# Altium schematic symbol library Capacitores.SchLib: 7 symbols
Pins are listed as number, name and electrical type; pins without a type are passive.

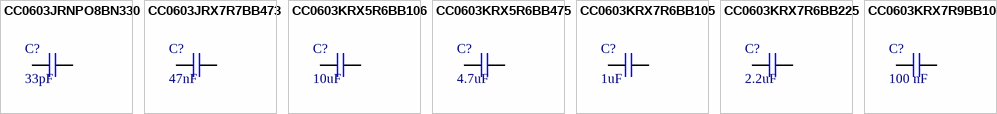
[diagram p0: symbols CC0603JRNPO8BN330 to CC0603KRX7R9BB104]

## CC0603JRNPO8BN330
designator C?, comment 33pF
25V 33pF NP0 ±5% 0603 Multilayer Ceramic Capacitors MLCC - SMD/SMT ROHS
footprint CC0603JRNPO8BN330
pins: 1, 2

## CC0603JRX7R7BB473
designator C?, comment 47nF
16V 47nF X7R ±5% 0603 Multilayer Ceramic Capacitors MLCC - SMD/SMT ROHS /
footprint CC0603JRX7R7BB473
pins: 1, 2

## CC0603KRX5R6BB106
designator C?, comment 10uF
10V 10uF X5R ±10% 0603 Multilayer Ceramic Capacitors MLCC - SMD/SMT ROHS /
footprint CC0603KRX5R6BB106
pins: 1, 2

## CC0603KRX5R6BB475
designator C?, comment 4.7uF
10V 4.7uF X5R ±10% 0603 Multilayer Ceramic Capacitors MLCC - SMD/SMT ROHS /
footprint CC0603KRX5R6BB475
pins: 1, 2

## CC0603KRX7R6BB105
designator C?, comment 1uF
10V 1uF X7R ±10% 0603 Multilayer Ceramic Capacitors MLCC - SMD/SMT ROHS /
footprint CC0603KRX7R6BB105
pins: 1, 2

## CC0603KRX7R6BB225
designator C?, comment 2.2uF
10V 2.2uF X7R ±10% 0603 Multilayer Ceramic Capacitors MLCC - SMD/SMT ROHS /
footprint CC0603KRX7R6BB225
pins: 1, 2

## CC0603KRX7R9BB104
designator C?, comment 100 nF
50V 100nF X7R ±10% 0603 Multilayer Ceramic Capacitors MLCC - SMD/SMT ROHS /
footprint CC0603KRX7R9BB104
pins: 1, 2